# EAGLE library part MIC79110 (library space-concordia-power)
Micrel 79110 Description: Simple 1.2A Li-Ion BCR Package: MLF-10 (QFN-10) Exposed Pad
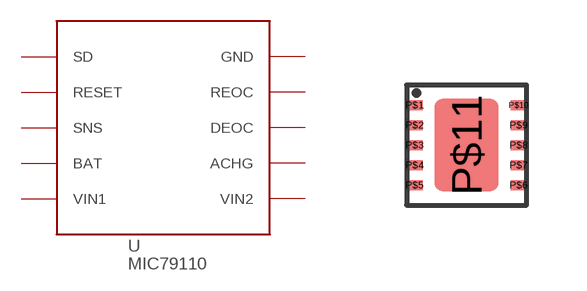
[diagram p4: symbol with the pads of MLF10-EP; footprint MLF10-EP]

Designator prefix -

## MIC79110  [MLF10-EP]
P$1  SD
P$2  RESET
P$3  SNS
P$4  BAT
P$5  VIN1
P$6  VIN2
P$7  ACHG
P$8  DEOC
P$9  REOC
P$10  GND

## Footprint MLF10-EP (pad centres in mm)
micro lead frame (QFN), 10 pin, exposed pad
smd 0.4 x 0.25: P$1 -1.3,1; P$2 -1.3,0.5; P$3 -1.3,0; P$4 -1.3,-0.5; P$5 -1.3,-1; P$6 1.3,-1; P$7 1.3,-0.5; P$8 1.3,0; P$9 1.3,0.5; P$10 1.3,1
smd 1.6 x 2.3: P$11 0,0